# EAGLE library part MICROCHIP_PICKIT_3 (library 180118 Library by matsu)
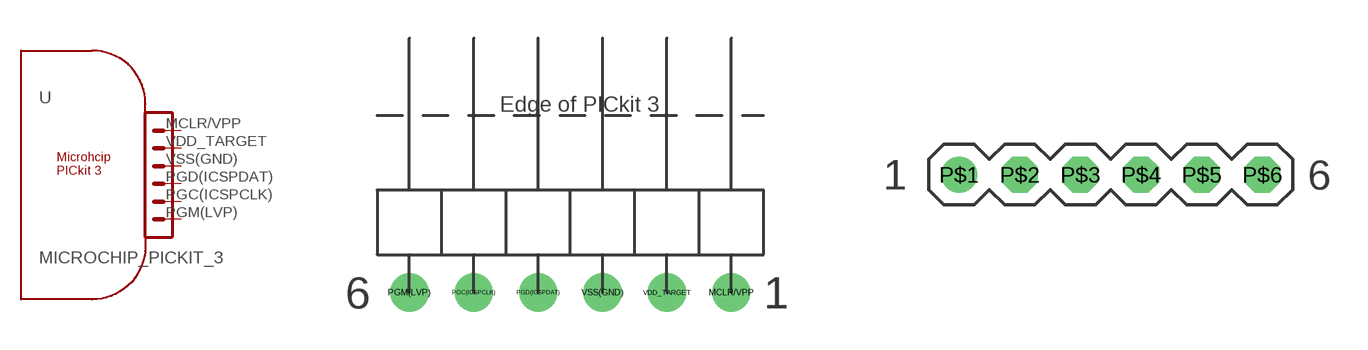
[diagram p22: symbol with the pads of MICROCHIP_PICKIT_3; footprints MICROCHIP_PICKIT_3, PIN_HEADER_MALE_1X06_06P]

Designator prefix -

## MICROCHIP_PICKIT_3H  [MICROCHIP_PICKIT_3]
MCLR/VPP  MCLR/VPP
PGC(ICSPCLK)  PGC(ICSPCLK)
PGD(ICSPDAT)  PGD(ICSPDAT)
PGM(LVP)  PGM(LVP)
VDD_TARGET  VDD_TARGET
VSS(GND)  VSS(GND)

## MICROCHIP_PICKIT_3V  [PIN_HEADER_MALE_1X06_06P]
P$1  MCLR/VPP
P$2  VDD_TARGET
P$3  VSS(GND)
P$4  PGD(ICSPDAT)
P$5  PGC(ICSPCLK)
P$6  PGM(LVP)

## Footprint MICROCHIP_PICKIT_3 (pad centres in mm)
drill 1: MCLR/VPP 5.08,0; PGC(ICSPCLK) -5.08,0; PGD(ICSPDAT) -2.54,0; PGM(LVP) -7.62,0; VDD_TARGET 2.54,0; VSS(GND) 0,0

## Footprint PIN_HEADER_MALE_1X06_06P (pad centres in mm)
drill 1: P$1 -6.35,0
drill 1 octagon: P$2 -3.81,0; P$3 -1.27,0; P$4 1.27,0; P$5 3.81,0; P$6 6.35,0